# Altium footprint library PcbLib.PcbLib: 34 footprints (part 1 of 3)
Each footprint in its own frame and in the unit in brackets; x right, y up, seen from the top. Pads: shape width x height; smd on the part's side, far side on the other; paste and mask are expansions set on the pad; w line width, h text height; cw(c..) or ccw(c..) is an arc to the next point about the centre after c.
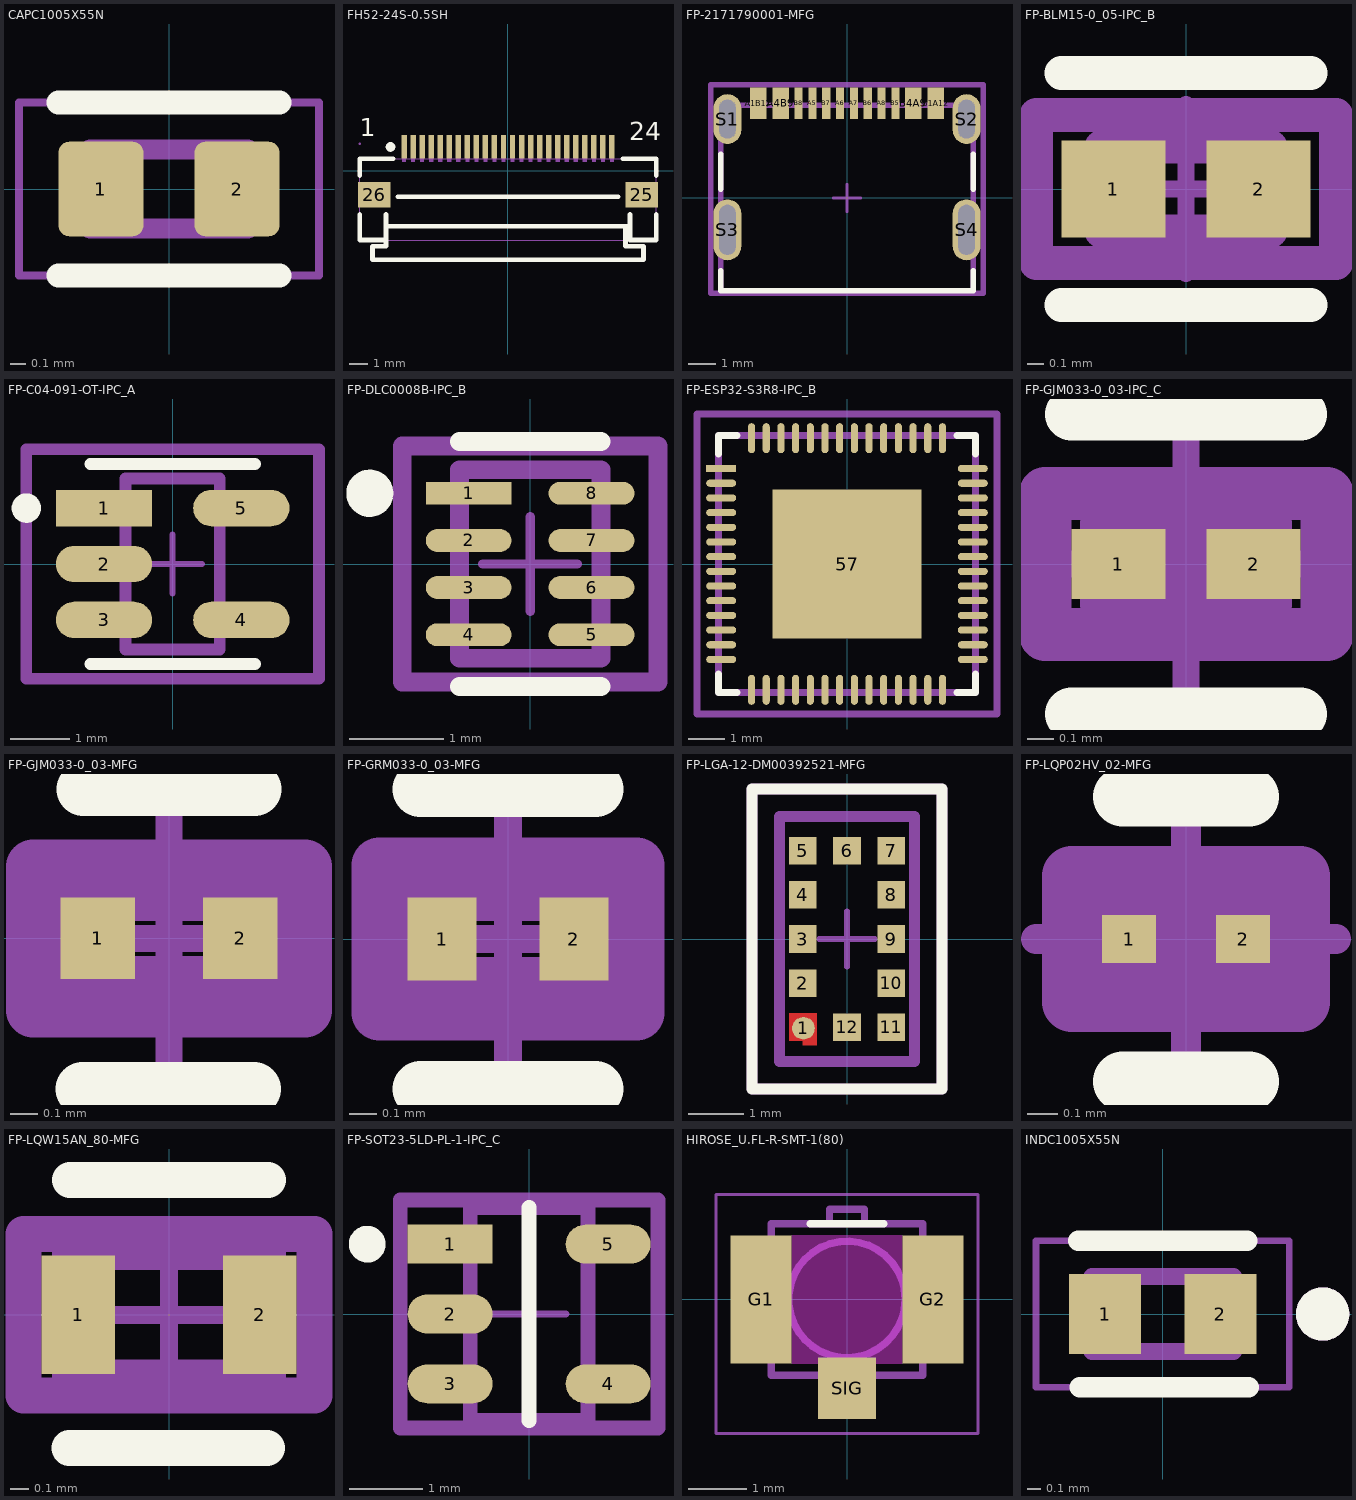
[diagram p0: the footprints below, top view; thin cyan lines are the x and y axes]

## CAPC1005X55N [mm]
pads (2):
  rrect25% 0.54x0.6 smd mask+0.051: 1(-0.432,0) 2(0.432,0)
Top Overlay:
  lines w0.152: -0.702,-0.55 0.702,-0.55 ; -0.702,0.55 0.702,0.55
Top 3D Body:
  lines w0.127: -0.5,-0.25 0.5,-0.25 0.5,0.25 -0.5,0.25 -0.5,-0.25
Top Courtyard:
  lines w0.05: -0.952,-0.55 0.952,-0.55 0.952,0.55 -0.952,0.55 -0.952,-0.55
3D body "step_temp.STEP": height 0.55, standoff 0, extent -0.5,-0.25 0.5,0.25

## FH52-24S-0.5SH [mm]
pads (26):
  rect 0.3x1.3 smd paste+0 mask+0.05: 1(-5.75,1.325) 2(-5.25,1.325) 3(-4.75,1.325) 4(-4.25,1.325) 5(-3.75,1.325) 6(-3.25,1.325) 7(-2.75,1.325) 8(-2.25,1.325) 9(-1.75,1.325) 10(-1.25,1.325) 11(-0.75,1.325) 12(-0.25,1.325) 13(0.25,1.325) 14(0.75,1.325) 15(1.25,1.325) 16(1.75,1.325) 17(2.25,1.325) 18(2.75,1.325) 19(3.25,1.325) 20(3.75,1.325) 21(4.25,1.325) 22(4.75,1.325) 23(5.25,1.325) 24(5.75,1.325)
  rect 1.8x1.4 smd paste+0 mask+0.05: 25(7.4,-1.325) 26(-7.4,-1.325)
Top Overlay:
  circle w0.254: c-6.5,1.325 r0.141
  lines w0.254: -8.2,-2.413 -8.2,-3.825 -6.75,-3.825 -6.75,-2.413 ; -8.2,-0.254 -8.2,0.675 -6.35,0.675 ; -6.096,-1.425 6.096,-1.425 ; 6.35,0.675 8.2,0.675 8.2,-0.254 ; 6.5,-3.073 6.5,-4.175 7.5,-4.175 7.5,-4.925 -7.5,-4.925 -7.5,-4.175 -6.75,-4.175 -6.75,-3.073 6.75,-3.073 ; 6.75,-2.413 6.75,-3.825 8.2,-3.825 8.2,-2.413
  text "24" at 6.706,1.702 h1.02
  text "1" at -8.204,1.905 h1.02
Top Courtyard:
  region: -8.14,1.495 -8.14,1.47 -8.175,1.435 -8.225,1.435 -8.26,1.47 -8.26,1.495 -8.26,1.52 -8.225,1.555 -8.175,1.555 -8.14,1.52
  region: 5.65,1.495 5.85,1.495 5.85,0.495 5.65,0.495
  region: 5.15,1.495 5.35,1.495 5.35,0.495 5.15,0.495
  region: 4.65,1.495 4.85,1.495 4.85,0.495 4.65,0.495
  region: 4.15,1.495 4.35,1.495 4.35,0.495 4.15,0.495
  region: 3.65,1.495 3.85,1.495 3.85,0.495 3.65,0.495
  region: 3.15,1.495 3.35,1.495 3.35,0.495 3.15,0.495
  region: 2.65,1.495 2.85,1.495 2.85,0.495 2.65,0.495
  region: 2.15,1.495 2.35,1.495 2.35,0.495 2.15,0.495
  region: 1.65,1.495 1.85,1.495 1.85,0.495 1.65,0.495
  region: 1.15,1.495 1.35,1.495 1.35,0.495 1.15,0.495
  region: 0.65,1.495 0.85,1.495 0.85,0.495 0.65,0.495
  region: 0.15,1.495 0.35,1.495 0.35,0.495 0.15,0.495
  region: -0.35,1.495 -0.15,1.495 -0.15,0.495 -0.35,0.495
  region: -0.85,1.495 -0.65,1.495 -0.65,0.495 -0.85,0.495
  region: -1.35,1.495 -1.15,1.495 -1.15,0.495 -1.35,0.495
  region: -1.85,1.495 -1.65,1.495 -1.65,0.495 -1.85,0.495
  region: -2.35,1.495 -2.15,1.495 -2.15,0.495 -2.35,0.495
  region: -2.85,1.495 -2.65,1.495 -2.65,0.495 -2.85,0.495
  region: -3.35,1.495 -3.15,1.495 -3.15,0.495 -3.35,0.495
  region: -3.85,1.495 -3.65,1.495 -3.65,0.495 -3.85,0.495
  region: -4.35,1.495 -4.15,1.495 -4.15,0.495 -4.35,0.495
  region: -4.85,1.495 -4.65,1.495 -4.65,0.495 -4.85,0.495
  region: -5.35,1.495 -5.15,1.495 -5.15,0.495 -5.35,0.495
  region: -5.85,1.495 -5.65,1.495 -5.65,0.495 -5.85,0.495
  region: -6.65,-0.825 -6.65,-1.825 -8.15,-1.825 -8.15,-0.825
  region: 8.15,-0.825 8.15,-1.825 6.65,-1.825 6.65,-0.825
  lines w0.051: -8.2,-3.825 -8.2,0.675 8.2,0.675 8.2,-3.825 -8.2,-3.825
3D body "2-1775333-4.stp": height 2.06, standoff 0.01, extent -8.375,-4.925 8.375,1.355

## FP-2171790001-MFG [mm]
pads (16):
  rect 0.6x1.15 smd paste+0 mask+0: A1B12(-3.2,3.425) A4B9(-2.4,3.425) B1A12(3.2,3.425) B4A9(2.4,3.425)
  rect 0.3x1.15 smd paste+0 mask+0: A5(-1.25,3.425) A6(-0.25,3.425) A7(0.25,3.425) A8(1.25,3.425) B5(1.75,3.425) B6(0.75,3.425) B7(-0.75,3.425) B8(-1.75,3.425)
  rrect100% 1x1.8 hole 1.4 slot 0.6 at 0 deg paste-2539.97 mask+0: S1(-4.32,2.85) S2(4.32,2.85)
  rrect100% 1x2.2 hole 1.8 slot 0.6 at 0 deg paste-2539.97 mask+0: S3(-4.32,-1.15) S4(4.32,-1.15)
Top Overlay:
  lines w0.2: -4.57,-2.625 -4.57,-3.35 4.57,-3.35 4.57,-2.625 ; -4.57,0.325 -4.57,1.575 ; 4.57,0.325 4.57,1.575
Top Assembly:
  lines w0.2: -4.92,-3.45 4.92,-3.45 4.92,4.1 -4.92,4.1 -4.92,-3.45
  text ".Designator" at 0,0.513 h1
Top 3D Body:
  lines w0.2: -4.57,-3.35 4.57,-3.35 4.57,3.35 -4.57,3.35 -4.57,-3.35
Top Courtyard:
  lines w0.2: -4.92,-3.45 4.92,-3.45 4.92,4.1 -4.92,4.1 -4.92,-3.45
Top Component Center:
  lines w0.1: -0.5,0 0.5,0 ; 0,-0.5 0,0.5
3D body "Conn_Molex_2171790001_eec.STEP": height 0.25, standoff 0, extent -4.92,-3.45 4.92,4.1

## FP-BLM15-0_05-IPC_B [mm]
pads (2):
  rect 0.615x0.572 smd paste+0 mask+0: 1(-0.429,0) 2(0.429,0)
Top Overlay:
  lines w0.2: -0.736,-0.686 0.736,-0.686 ; -0.736,0.686 0.736,0.686
Top Assembly:
  lines w0.2: -0.886,-0.436 -0.886,0.436 0.886,0.436 0.886,-0.436 -0.886,-0.436
  text ".Designator" at 0,0.188 h1
Top 3D Body:
  lines w0.2: -0.5,-0.25 -0.5,0.25 0.5,0.25 0.5,-0.25 -0.5,-0.25
Top Courtyard:
  lines w0.2: -0.886,-0.436 -0.886,0.436 0.886,0.436 0.886,-0.436 -0.886,-0.436
Top Component Center:
  lines w0.1: -0.5,0 0.5,0 ; 0,-0.5 0,0.5
3D body "FBead_Murata_BLM15PX471SN1B_eec.STEP": height 0.25, standoff 0, extent -0.886,-0.436 0.886,0.436

## FP-C04-091-OT-IPC_A [mil]
pads (5):
  rect 64.5x24.33 smd paste+0 mask+2: 1(-45.91,37.4)
  rrect100% 64.5x24.33 smd paste+0 mask+2: 2(-45.91,0) 3(-45.91,-37.4) 4(45.91,-37.4) 5(45.91,37.4)
Top Overlay:
  circle w9.84: c-97.85,37.4 r4.92
  lines w7.87: -55.12,-66.93 55.12,-66.93 ; -55.12,66.93 55.12,66.93
Top Assembly:
  lines w7.87: -97.85,-76.77 97.85,-76.77 97.85,76.77 -97.85,76.77 -97.85,-76.77
  text ".Designator" at 0,7.39 h39.37
Top 3D Body:
  lines w7.87: -31.5,-57.09 31.5,-57.09 31.5,57.09 -31.5,57.09 -31.5,-57.09
Top Courtyard:
  lines w7.87: -97.85,-76.77 97.85,-76.77 97.85,76.77 -97.85,76.77 -97.85,-76.77
Top Component Center:
  lines w3.94: -19.68,0 19.68,0 ; 0,-19.68 0,19.68
3D body "MCP73831T-2ACI_OT.STEP": height 57.09, standoff 0, extent -53.15,-57.09 53.15,57.09

## FP-DLC0008B-IPC_B [mm]
pads (8):
  rect 0.91x0.242 smd paste+0 mask+0: 1(-0.651,0.75)
  rrect100% 0.91x0.242 smd paste+0 mask+0: 2(-0.651,0.25) 3(-0.651,-0.25) 4(-0.651,-0.75) 5(0.651,-0.75) 6(0.651,-0.25) 7(0.651,0.25) 8(0.651,0.75)
Top Overlay:
  circle w0.25: c-1.7,0.75 r0.125
  lines w0.2: -0.75,-1.3 0.75,-1.3 ; -0.75,1.3 0.75,1.3
Top Assembly:
  lines w0.2: -1.356,-1.25 1.356,-1.25 1.356,1.25 -1.356,1.25 -1.356,-1.25
  text ".Designator" at 0,0.188 h1
Top 3D Body:
  lines w0.2: -0.75,-1 0.75,-1 0.75,1 -0.75,1 -0.75,-1
Top Courtyard:
  lines w0.2: -1.356,-1.25 1.356,-1.25 1.356,1.25 -1.356,1.25 -1.356,-1.25
Top Component Center:
  lines w0.1: -0.5,0 0.5,0 ; 0,-0.5 0,0.5
3D body "IC_Texas_Instruments_TPS62840DLCR_eec.STEP": height 0.25, standoff 0, extent -1.356,-1.25 1.356,1.25

## FP-ESP32-S3R8-IPC_B [mm]
pads (57):
  rect 0.818x0.192 smd paste+0 mask+0: 1(-3.427,2.6)
  rrect100% 0.818x0.192 smd paste+0 mask+0: 2(-3.427,2.2) 3(-3.427,1.8) 4(-3.427,1.4) 5(-3.427,1) 6(-3.427,0.6) 7(-3.427,0.2) 8(-3.427,-0.2) 9(-3.427,-0.6) 10(-3.427,-1) 11(-3.427,-1.4) 12(-3.427,-1.8) 13(-3.427,-2.2) 14(-3.427,-2.6) 29(3.427,-2.6) 30(3.427,-2.2) 31(3.427,-1.8) 32(3.427,-1.4) 33(3.427,-1) 34(3.427,-0.6) 35(3.427,-0.2) 36(3.427,0.2) 37(3.427,0.6) 38(3.427,1) 39(3.427,1.4) 40(3.427,1.8) 41(3.427,2.2) 42(3.427,2.6)
  rrect100% 0.192x0.818 smd paste+0 mask+0: 15(-2.6,-3.427) 16(-2.2,-3.427) 17(-1.8,-3.427) 18(-1.4,-3.427) 19(-1,-3.427) 20(-0.6,-3.427) 21(-0.2,-3.427) 22(0.2,-3.427) 23(0.6,-3.427) 24(1,-3.427) 25(1.4,-3.427) 26(1.8,-3.427) 27(2.2,-3.427) 28(2.6,-3.427) 43(2.6,3.427) 44(2.2,3.427) 45(1.8,3.427) 46(1.4,3.427) 47(1,3.427) 48(0.6,3.427) 49(0.2,3.427) 50(-0.2,3.427) 51(-0.6,3.427) 52(-1,3.427) 53(-1.4,3.427) 54(-1.8,3.427) 55(-2.2,3.427) 56(-2.6,3.427)
  rect 4.05x4.05 smd paste-1000 mask+0: 57(0,0)
Top Overlay:
  lines w0.2: -3.5,-3 -3.5,-3.5 -3,-3.5 ; -3.5,3 -3.5,3.5 -3,3.5 ; 3,-3.5 3.5,-3.5 3.5,-3 ; 3,3.5 3.5,3.5 3.5,3
Top Paste:
  rectangle: -1.281,-1.281 1.281,1.281
Top Assembly:
  lines w0.2: -4.086,-4.086 -4.086,4.086 4.086,4.086 4.086,-4.086 -4.086,-4.086
  text ".Designator" at 0,0.188 h1
Top 3D Body:
  lines w0.2: -3.5,-3.5 -3.5,3.5 3.5,3.5 3.5,-3.5 -3.5,-3.5
Top Courtyard:
  lines w0.2: -4.086,-4.086 -4.086,4.086 4.086,4.086 4.086,-4.086 -4.086,-4.086
Top Component Center:
  lines w0.1: -0.5,0 0.5,0 ; 0,-0.5 0,0.5
3D body "IC_Espressif_ESP32-S3R8_eec.STEP": height 0.25, standoff 0, extent -4.086,-4.086 4.086,4.086

## FP-GJM033-0_03-IPC_C [mm]
pads (2):
  rect 0.354x0.263 smd paste+0 mask+0: 1(-0.254,0) 2(0.254,0)
Top Overlay:
  lines w0.2: -0.431,-0.565 0.431,-0.565 ; -0.431,0.565 0.431,0.565
Top Assembly:
  lines w0.2: -0.531,-0.265 -0.531,0.265 0.531,0.265 0.531,-0.265 -0.531,-0.265
  text ".Designator" at 0,0.188 h1
Top 3D Body:
  lines w0.2: -0.3,-0.15 -0.3,0.15 0.3,0.15 0.3,-0.15 -0.3,-0.15
Top Courtyard:
  lines w0.2: -0.531,-0.265 -0.531,0.265 0.531,0.265 0.531,-0.265 -0.531,-0.265
Top Component Center:
  lines w0.1: -0.5,0 0.5,0 ; 0,-0.5 0,0.5
3D body "Cap_Murata_GJM0334C1ER30WB01D_eec.STEP": height 0.25, standoff 0, extent -0.531,-0.265 0.531,0.265

## FP-GJM033-0_03-MFG [mm]
pads (2):
  rect 0.275x0.3 smd paste+0 mask+0: 1(-0.262,0) 2(0.262,0)
Top Overlay:
  lines w0.2: -0.318,-0.554 0.312,-0.554 ; -0.315,0.55 0.315,0.55
Top Assembly:
  lines w0.2: -0.5,-0.265 -0.5,0.265 0.5,0.265 0.5,-0.265 -0.5,-0.265
  text ".Designator" at 0,0.188 h1
Top 3D Body:
  lines w0.2: -0.315,-0.165 -0.315,0.165 0.315,0.165 0.315,-0.165 -0.315,-0.165
Top Courtyard:
  lines w0.2: -0.5,-0.265 -0.5,0.265 0.5,0.265 0.5,-0.265 -0.5,-0.265
Top Component Center:
  lines w0.1: -0.5,0 0.5,0 ; 0,-0.5 0,0.5
3D body "Cap_Murata_GJM0334C1ER30WB01D_eec.STEP": height 0.25, standoff 0, extent -0.5,-0.265 0.5,0.265

## FP-GRM033-0_03-MFG [mm]
pads (2):
  rect 0.25x0.3 smd paste+0 mask+0: 1(-0.238,0) 2(0.238,0)
Top Overlay:
  lines w0.2: -0.315,-0.54 0.315,-0.54 ; -0.315,0.54 0.315,0.54
Top Assembly:
  lines w0.2: -0.463,-0.265 0.463,-0.265 0.463,0.265 -0.463,0.265 -0.463,-0.265
  text ".Designator" at 0,0.188 h1
Top 3D Body:
  lines w0.2: -0.315,-0.165 0.315,-0.165 0.315,0.165 -0.315,0.165 -0.315,-0.165
Top Courtyard:
  lines w0.2: -0.463,-0.265 0.463,-0.265 0.463,0.265 -0.463,0.265 -0.463,-0.265
Top Component Center:
  lines w0.1: -0.5,0 0.5,0 ; 0,-0.5 0,0.5
3D body "Cap_Murata_GRM0335C1HR30BA01D_eec.STEP": height 0.25, standoff 0, extent -0.463,-0.265 0.463,0.265

## FP-LGA-12-DM00392521-MFG [mm]
pads (12):
  round 0.412 smd paste+0 mask+0: 1(-0.791,-1.621)
  rect 0.5x0.5 smd paste+0 mask+0: 2(-0.8,-0.8) 3(-0.8,0) 4(-0.8,0.8) 5(-0.8,1.6) 6(0,1.6) 7(0.8,1.6) 8(0.8,0.8) 9(0.8,0) 10(0.8,-0.8) 11(0.8,-1.6) 12(0,-1.6)
Top Layer:
  region: -1.05,-1.35 -1.05,-1.85 -0.8,-1.85 -0.8,-1.93 -0.55,-1.93 -0.55,-1.35
Top Overlay:
  lines w0.2: -1.725,-2.725 -1.725,2.725 1.725,2.725 1.725,-2.725 -1.725,-2.725
Top Assembly:
  lines w0.2: -1.725,-2.725 -1.725,2.725 1.725,2.725 1.725,-2.725 -1.725,-2.725
  text ".Designator" at 0,0.188 h1
Top 3D Body:
  lines w0.2: -1.225,-2.225 -1.225,2.225 1.225,2.225 1.225,-2.225 -1.225,-2.225
Top Courtyard:
  lines w0.2: -1.725,-2.725 -1.725,2.725 1.725,2.725 1.725,-2.725 -1.725,-2.725
Top Component Center:
  lines w0.1: -0.5,0 0.5,0 ; 0,-0.5 0,0.5
3D body "IC_STMicroelectronics_VL53L3CXV0DH-1_eec.STEP": height 0.25, standoff 0, extent -1.725,-2.725 1.725,2.725

## FP-LQP02HV_02-MFG [mm]
pads (2):
  rect 0.18x0.16 smd paste+0 mask+0: 1(-0.19,0) 2(0.19,0)
Top Overlay:
  lines w0.2: -0.21,-0.475 0.21,-0.475 ; -0.21,0.475 0.21,0.475
Top Assembly:
  lines w0.2: -0.38,-0.21 0.38,-0.21 0.38,0.21 -0.38,0.21 -0.38,-0.21
  text ".Designator" at 0,0.188 h1
Top 3D Body:
  lines w0.2: -0.21,-0.11 0.21,-0.11 0.21,0.11 -0.21,0.11 -0.21,-0.11
Top Courtyard:
  lines w0.2: -0.38,-0.21 0.38,-0.21 0.38,0.21 -0.38,0.21 -0.38,-0.21
Top Component Center:
  lines w0.1: -0.5,0 0.5,0 ; 0,-0.5 0,0.5
3D body "Ind_Murata_LQP02HV0N4B02L_eec.STEP": height 0.25, standoff 0, extent -0.38,-0.21 0.38,0.21

## FP-LQW15AN_80-MFG [mm]
pads (2):
  rect 0.41x0.66 smd paste+0 mask+0: 1(-0.505,0) 2(0.505,0)
Top Overlay:
  lines w0.2: -0.555,-0.741 0.545,-0.741 ; -0.55,0.75 0.55,0.75
Top Assembly:
  lines w0.2: -0.81,-0.45 0.81,-0.45 0.81,0.45 -0.81,0.45 -0.81,-0.45
  text ".Designator" at 0,0.188 h1
Top 3D Body:
  lines w0.2: -0.55,-0.35 0.55,-0.35 0.55,0.35 -0.55,0.35 -0.55,-0.35
Top Courtyard:
  lines w0.2: -0.81,-0.45 0.81,-0.45 0.81,0.45 -0.81,0.45 -0.81,-0.45
Top Component Center:
  lines w0.1: -0.5,0 0.5,0 ; 0,-0.5 0,0.5
3D body "Ind_Murata_LQW15AN10NG80B_eec.STEP": height 0.25, standoff 0, extent -0.81,-0.45 0.81,0.45

## FP-SOT23-5LD-PL-1-IPC_C [mm]
pads (5):
  rect 1.156x0.53 smd paste+0 mask+0: 1(-1.075,0.95)
  rrect100% 1.156x0.53 smd paste+0 mask+0: 2(-1.075,0) 3(-1.075,-0.95) 4(1.075,-0.95) 5(1.075,0.95)
Top Overlay:
  circle w0.25: c-2.203,0.95 r0.125
  lines w0.2: -0.003,-1.45 -0.003,1.45 0.003,1.45 0.003,-1.45 -0.003,-1.45
Top Assembly:
  lines w0.2: -1.753,-1.55 1.753,-1.55 1.753,1.55 -1.753,1.55 -1.753,-1.55
  text ".Designator" at 0,0.188 h1
Top 3D Body:
  lines w0.2: -0.8,-1.45 0.8,-1.45 0.8,1.45 -0.8,1.45 -0.8,-1.45
Top Courtyard:
  lines w0.2: -1.753,-1.55 1.753,-1.55 1.753,1.55 -1.753,1.55 -1.753,-1.55
Top Component Center:
  lines w0.1: -0.5,0 0.5,0 ; 0,-0.5 0,0.5
3D body "IC_Microchip_MIC7300YM5-TR_eec.STEP": height 0.25, standoff 0, extent -1.753,-1.55 1.753,1.55

## HIROSE_U.FL-R-SMT-1(80) [mm] "1 Male Pin IPEX Board Side 1.25mm -40℃~+90℃ 6GHz 50Ω 2mm SMD Coaxial Connectors (RF) ROHS"
height 1.45
pads (3):
  rect 1.05x2.2 smd paste-2: G1(-1.475,0) G2(1.475,0)
  rect 1x1.05 smd paste-0.1: SIG(0,-1.525)
Top Overlay:
  lines w0.127: -0.63,1.3 0.63,1.3
Top Paste:
  region: -1.05,-1 -1.95,-1 -1.95,1 -1.05,1
  region: 1.95,-1 1.05,-1 1.05,1 1.95,1
Keep-Out Layer:
  region: 0.95,-1.1 0.5,-1.1 0.5,-1 -0.5,-1 -0.5,-1.1 -0.95,-1.1 -0.95,1.1 0.95,1.1
Top 3D Body:
  circle w0.127: c0,0 r1
  lines w0.127: -0.3,1.3 -1.3,1.3 -1.3,-1.3 1.3,-1.3 1.3,1.3 0.3,1.3 ; -0.3,1.3 0.3,1.3 ; -0.3,1.3 -0.3,1.55 0.3,1.55 0.3,1.3
Top Courtyard:
  lines w0.05: -2.25,-2.3 2.25,-2.3 2.25,1.8 -2.25,1.8 -2.25,-2.3
3D body "step_temp.STEP": height 1.26, standoff 0.01, extent -1.5,-1.525 1.5,1.575

## INDC1005X55N [mm] "FIXED IND 2nH 900mA 90mΩ 0402"
pads (2):
  rect 0.54x0.6 smd: 1(-0.432,0) 2(0.432,0)
Top Overlay:
  circle w0.2: c1.2,0 r0.1
  lines w0.152: -0.635,0.55 0.635,0.55 ; -0.624,-0.55 0.646,-0.55
Top 3D Body:
  circle w0.2: c1.2,0 r0.1
  lines w0.127: -0.53,-0.28 0.53,-0.28 0.53,0.28 -0.53,0.28 -0.53,-0.28
Top Courtyard:
  lines w0.05: -0.95,-0.55 0.95,-0.55 0.95,0.55 -0.95,0.55 -0.95,-0.55
3D body "INDC1005X55N.step": height 0.55, standoff 0, extent -0.5,-0.25 0.5,0.25